# Altium schematic symbol library DRV2667RGPT.SchLib: 1 symbol
Pins are listed as number, name and electrical type; pins without a type are passive.

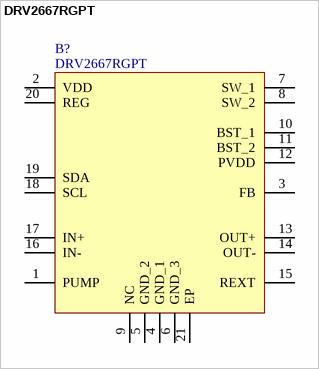
[diagram p0: symbol DRV2667RGPT]

## DRV2667RGPT
designator B?
Motor / Motion / Ignition Controllers & Drivers Piezo Haptic Dvr w/ Boost Digital FE; Manufacturer_Name: Texas Instruments; Geometry.Height: 1mm; Mouser Part Number: 595-DRV2667RGPT; Mouser Price/Stock: https://www.mouser.co.uk/ProductDetail/Texas-Instruments/DRV2667RGPT?qs=5T7hXpf2iWdxn16iAzW0AQ%3D%3D; Manufacturer_Part_Number: DRV2667RGPT; Datasheet Link: https://www.ti.com/lit/ds/symlink/drv2667.pdf?HQS=TI-null-null-digikeymode-df-pf-null-wwe&ts=1600079349195
footprint QFN50P400X400X100-21N-D
pins: 1 PUMP, 2 VDD, 3 FB, 4 GND_1, 5 GND_2, 6 GND_3, 7 SW_1, 8 SW_2, 9 NC, 10 BST_1, 11 BST_2, 12 PVDD, 13 OUT+, 14 OUT-, 15 REXT, 16 IN-, 17 IN+, 18 SCL, 19 SDA, 20 REG, 21 EP